# EAGLE library part ADUM1210 (library analog)
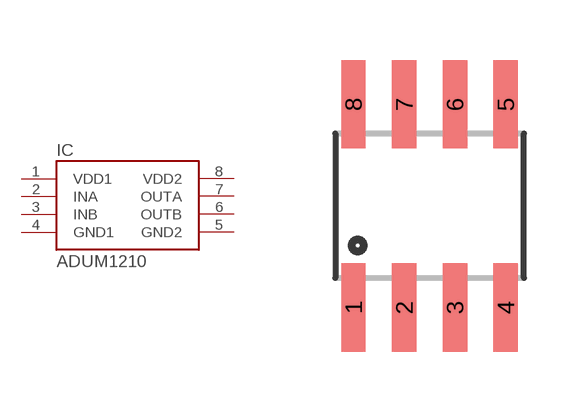
[diagram p0: symbol with the pads of SO08; footprint SO08]

Designator prefix IC

## ADUM1210  [SO08]
1  VDD1
2  INA
3  INB
4  GND1
5  GND2
6  OUTB
7  OUTA
8  VDD2

## Footprint SO08 (pad centres in mm)
Small Outline Package Fits JEDEC packages (narrow SOIC-8)
smd 0.61 x 2.21: 1 -1.905,-2.54; 2 -0.635,-2.54; 3 0.635,-2.54; 4 1.905,-2.54; 5 1.905,2.54; 6 0.635,2.54; 7 -0.635,2.54; 8 -1.905,2.54